# Altium footprint library RX0032.PcbLib: 1 footprints
Each footprint in its own frame and in the unit in brackets; x right, y up, seen from the top. Pads: shape width x height; smd on the part's side, far side on the other; paste and mask are expansions set on the pad; w line width, h text height; cw(c..) or ccw(c..) is an arc to the next point about the centre after c.
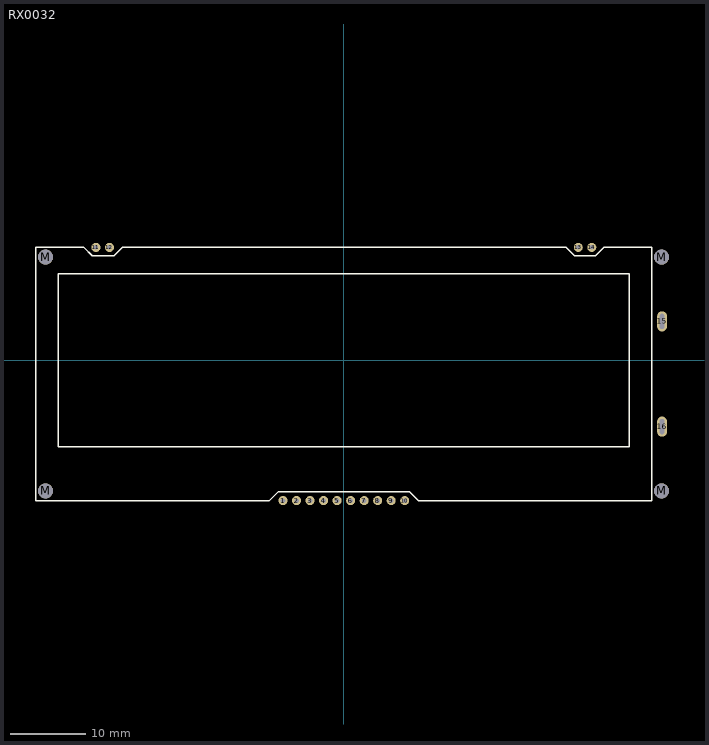
[diagram p0: the footprint, top view; thin cyan lines are the x and y axes]

## RX0032 [mm]
pads (20):
  round 1.2 hole 0.6: 1(-8.1,-18.7) 2(-6.3,-18.7) 3(-4.5,-18.7) 4(-2.7,-18.7) 5(-0.9,-18.7) 6(0.9,-18.7) 7(2.7,-18.7) 8(4.5,-18.7) 9(6.3,-18.7) 10(8.1,-18.7) 11(-33,15) 12(-31.2,15) 13(31.2,15) 14(33,15)
  oval 1.3x2.7 hole 0.6 slot 2 at 90 deg: 15(42.35,5.15) 16(42.35,-8.85)
  round 2 hole 2: M(-39.7,-17.4) M(42.3,-17.4) M(42.3,13.7)
  round 2 hole 2 unplated: M(-39.7,13.7)
Top Overlay:
  lines w0.2: -41,-18.7 -41,-16 -41,12.3 -41,15 -34.6,15 -33.5,13.9 -30.6,13.9 -29.5,15 29.6,15 30.7,13.9 33.5,13.9 34.6,15 41,15 41,12.9 41,-15.9 41,-16.2 41,-18.7 9.9,-18.7 8.7,-17.5 -8.7,-17.5 -9.9,-18.7 -41,-18.7 ; -38,-11.5 0,-11.5 38,-11.5 38,11.5 0,11.5 -38,11.5 -38,-11.5